# Altium schematic symbol library 2020-10-24_18-56-50.SchLib: 2 symbols
Pins are listed as number, name and electrical type; pins without a type are passive.

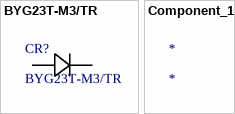
[diagram p0: symbols BYG23T-M3/TR to Component_1]

## BYG23T-M3/TR
designator CR?
No Description Available; Built_By: EMA_Anthony; Vendor: Vishay; SourceLibrary: Vishay_2019-11-13; Type: DEV; Copyright: Copyright (C) 2018 Accelerated Designs. All rights reserved; Datasheet: VY1332M51Y5UC63V0; Manufacturer_Part_Number: BYG23T-M3/TR; RefDes: RefDes
footprint DIODE_SMA_DO-214AC_VIS
pins: 1, 2

## Component_1
designator *